# EAGLE library part MINITEK-6-VIE-M-F (library PonLib)
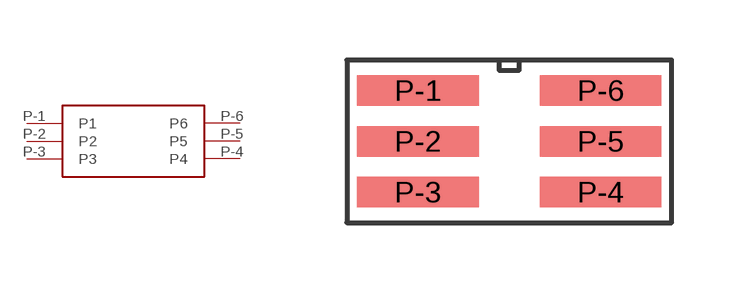
[diagram p0: symbol with the pads of MINITEK-6-VIE-MF; footprint MINITEK-6-VIE-MF]

Designator prefix -

## MINITEK-6-VIE-M-F  [MINITEK-6-VIE-MF]
P-1  P1
P-2  P2
P-3  P3
P-4  P4
P-5  P5
P-6  P6

## Footprint MINITEK-6-VIE-MF (pad centres in mm)
smd 3.048 x 0.762: P-1 -2.286,1.27; P-2 -2.286,0; P-3 -2.286,-1.27; P-4 2.286,-1.27; P-5 2.286,0; P-6 2.286,1.27